# Altium footprint library WCAP-FTXH.PcbLib: 36 footprints (part 1 of 3)
Each footprint in its own frame and in the unit in brackets; x right, y up, seen from the top. Pads: shape width x height; smd on the part's side, far side on the other; paste and mask are expansions set on the pad; w line width, h text height; cw(c..) or ccw(c..) is an arc to the next point about the centre after c.
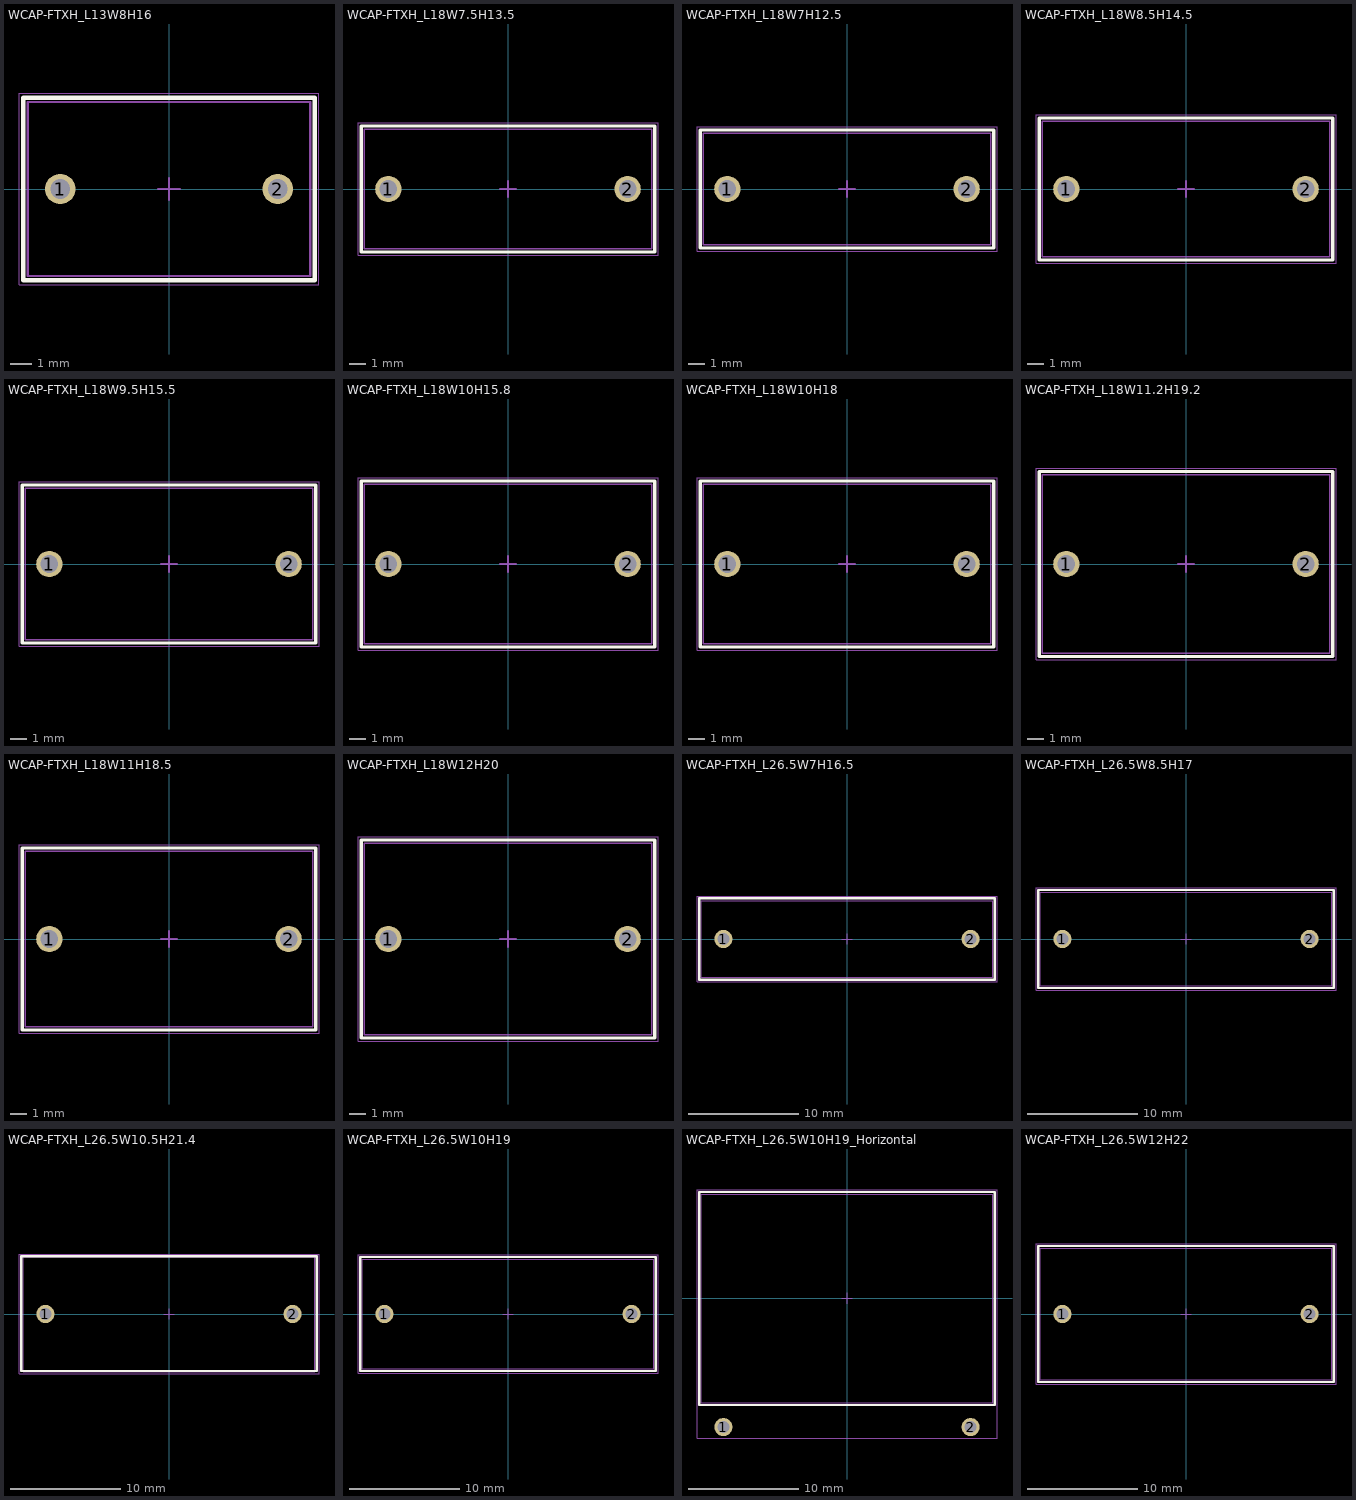
[diagram p0: the footprints below, top view; thin cyan lines are the x and y axes]

## WCAP-FTXH_L13W8H16 [mm] "Film Capacitor, body 13.00x8.00mm"
height 16
pads (2):
  round 1.4 hole 0.9: 1(-5,0) 2(5,0)
Top Overlay:
  lines w0.2: -6.7,-4.2 6.7,-4.2 6.7,4.2 -6.7,4.2 -6.7,-4.2
Top Assembly:
  lines w0.1: -6.7,-4.2 6.7,-4.2 6.7,4.2 -6.7,4.2 -6.7,-4.2
Top Designator:
  text ".Designator" at -3.647,-0.357 h1
Top 3D Body:
  lines w0.1: -6.5,-4 6.5,-4 6.5,4 -6.5,4 -6.5,-4
Top Courtyard:
  lines w0.05: -6.9,-4.4 6.9,-4.4 6.9,4.4 -6.9,4.4 -6.9,-4.4
Top Component Center:
  lines w0.1: -0.5,0 0.5,0 ; 0,-0.5 0,0.5
3D body "STP_WCAP-FTXH_10x13x8x16 (rev1).stp": height 16.05, standoff -3.95, extent -6.5,-4 6.5,4

## WCAP-FTXH_L18W7.5H13.5 [mm] "Film Capacitor, body 18.00x7.50mm"
height 13.5
pads (2):
  round 1.65 hole 1.1: 1(-7.5,0) 2(7.5,0)
Top Overlay:
  lines w0.2: -9.2,-3.95 -9.2,3.95 9.2,3.95 9.2,-3.95 -9.2,-3.95
Top Assembly:
  lines w0.1: -9.2,-3.95 -9.2,3.95 9.2,3.95 9.2,-3.95 -9.2,-3.95
Top Designator:
  text ".Designator" at -3.647,-0.357 h1
Top 3D Body:
  lines w0.1: -9,-3.75 -9,3.75 9,3.75 9,-3.75 -9,-3.75
Top Courtyard:
  lines w0.05: -9.4,-4.15 -9.4,4.15 9.4,4.15 9.4,-4.15 -9.4,-4.15
Top Component Center:
  lines w0.1: -0.5,0 0.5,0 ; 0,-0.5 0,0.5
3D body "15x18x7,5x13,5.stp": height 13.5, standoff -4, extent -9,-3.75 9,3.75

## WCAP-FTXH_L18W7H12.5 [mm] "Film Capacitor, body 18.00x7.00mm"
height 12.5
pads (2):
  round 1.65 hole 1.1: 1(-7.5,0) 2(7.5,0)
Top Overlay:
  lines w0.2: -9.2,-3.7 9.2,-3.7 9.2,3.7 -9.2,3.7 -9.2,-3.7
Top Assembly:
  lines w0.1: -9.2,-3.7 9.2,-3.7 9.2,3.7 -9.2,3.7 -9.2,-3.7
Top Designator:
  text ".Designator" at -3.647,-0.357 h1
Top 3D Body:
  lines w0.1: -9,-3.5 9,-3.5 9,3.5 -9,3.5 -9,-3.5
Top Courtyard:
  lines w0.05: -9.4,-3.9 9.4,-3.9 9.4,3.9 -9.4,3.9 -9.4,-3.9
Top Component Center:
  lines w0.1: -0.5,0 0.5,0 ; 0,-0.5 0,0.5
3D body "15x18x7x12,5.stp": height 12.57, standoff -3.93, extent -9,-3.5 9,3.5

## WCAP-FTXH_L18W8.5H14.5 [mm] "Film Capacitor, body 18.00x8.50mm"
height 14.5
pads (2):
  round 1.65 hole 1.1: 1(-7.5,0) 2(7.5,0)
Top Overlay:
  lines w0.2: -9.2,-4.45 -9.2,4.45 9.2,4.45 9.2,-4.45 -9.2,-4.45
Top Assembly:
  lines w0.1: -9.2,-4.45 -9.2,4.45 9.2,4.45 9.2,-4.45 -9.2,-4.45
Top Designator:
  text ".Designator" at -3.647,-0.357 h1
Top 3D Body:
  lines w0.1: -9,-4.25 -9,4.25 9,4.25 9,-4.25 -9,-4.25
Top Courtyard:
  lines w0.05: -9.4,-4.65 -9.4,4.65 9.4,4.65 9.4,-4.65 -9.4,-4.65
Top Component Center:
  lines w0.1: -0.5,0 0.5,0 ; 0,-0.5 0,0.5
3D body "15x18x8,5x14,5.stp": height 14.5, standoff -4, extent -9,-4.25 9,4.25

## WCAP-FTXH_L18W9.5H15.5 [mm] "Film Capacitor, body 18.00x9.50mm"
height 15.5
pads (2):
  round 1.65 hole 1.1: 1(-7.5,0) 2(7.5,0)
Top Overlay:
  lines w0.2: -9.2,-4.95 9.2,-4.95 9.2,4.95 -9.2,4.95 -9.2,-4.95
Top Assembly:
  lines w0.1: -9.2,-4.95 9.2,-4.95 9.2,4.95 -9.2,4.95 -9.2,-4.95
Top Designator:
  text ".Designator" at -3.647,-0.357 h1
Top 3D Body:
  lines w0.1: -9,-4.75 9,-4.75 9,4.75 -9,4.75 -9,-4.75
Top Courtyard:
  lines w0.05: -9.4,-5.15 9.4,-5.15 9.4,5.15 -9.4,5.15 -9.4,-5.15
Top Component Center:
  lines w0.1: -0.5,0 0.5,0 ; 0,-0.5 0,0.5
3D body "15x18x9,5x15,5.stp": height 15.5, standoff -4, extent -9,-4.75 9,4.75

## WCAP-FTXH_L18W10H15.8 [mm] "Film Capacitor, body 18.00x10.00mm"
height 15.8
pads (2):
  round 1.65 hole 1.1: 1(-7.5,0) 2(7.5,0)
Top Overlay:
  lines w0.2: -9.2,-5.2 9.2,-5.2 9.2,5.2 -9.2,5.2 -9.2,-5.2
Top Assembly:
  lines w0.1: -9.2,-5.2 9.2,-5.2 9.2,5.2 -9.2,5.2 -9.2,-5.2
Top Designator:
  text ".Designator" at -3.647,-0.357 h1
Top 3D Body:
  lines w0.1: -9,-5 9,-5 9,5 -9,5 -9,-5
Top Courtyard:
  lines w0.05: -9.4,-5.4 9.4,-5.4 9.4,5.4 -9.4,5.4 -9.4,-5.4
Top Component Center:
  lines w0.1: -0.5,0 0.5,0 ; 0,-0.5 0,0.5
3D body "15x18x10x15,8.stp": height 15.55, standoff -3.95, extent -9,-5 9,5

## WCAP-FTXH_L18W10H18 [mm] "Film Capacitor, body 18.00x10.00mm"
height 15.8
pads (2):
  round 1.65 hole 1.1: 1(-7.5,0) 2(7.5,0)
Top Overlay:
  lines w0.2: -9.2,-5.2 9.2,-5.2 9.2,5.2 -9.2,5.2 -9.2,-5.2
Top Assembly:
  lines w0.1: -9.2,-5.2 9.2,-5.2 9.2,5.2 -9.2,5.2 -9.2,-5.2
Top Designator:
  text ".Designator" at -3.647,-0.357 h1
Top 3D Body:
  lines w0.1: -9,-5 9,-5 9,5 -9,5 -9,-5
Top Courtyard:
  lines w0.05: -9.4,-5.4 9.4,-5.4 9.4,5.4 -9.4,5.4 -9.4,-5.4
Top Component Center:
  lines w0.1: -0.5,0 0.5,0 ; 0,-0.5 0,0.5
3D body "15x18x10x18.stp": height 18.05, standoff -3.95, extent -9,-5 9,5

## WCAP-FTXH_L18W11.2H19.2 [mm] "Film Capacitor, body 18.00x11.20mm"
height 19.2
pads (2):
  round 1.65 hole 1.1: 1(-7.5,0) 2(7.5,0)
Top Overlay:
  lines w0.2: -9.2,-5.8 -9.2,5.8 9.2,5.8 9.2,-5.8 -9.2,-5.8
Top Assembly:
  lines w0.1: -9.2,-5.8 -9.2,5.8 9.2,5.8 9.2,-5.8 -9.2,-5.8
Top Designator:
  text ".Designator" at -3.647,-0.357 h1
Top 3D Body:
  lines w0.1: -9,-5.6 -9,5.6 9,5.6 9,-5.6 -9,-5.6
Top Courtyard:
  lines w0.05: -9.4,-6 -9.4,6 9.4,6 9.4,-6 -9.4,-6
Top Component Center:
  lines w0.1: -0.5,0 0.5,0 ; 0,-0.5 0,0.5
3D body "15x18x11,2x19,2.stp": height 19.2, standoff -4, extent -9,-5.6 9,5.6

## WCAP-FTXH_L18W11H18.5 [mm] "Film Capacitor, body 18.00x10.00mm"
height 15.8
pads (2):
  round 1.65 hole 1.1: 1(-7.5,0) 2(7.5,0)
Top Overlay:
  lines w0.2: -9.2,-5.7 9.2,-5.7 9.2,5.7 -9.2,5.7 -9.2,-5.7
Top Assembly:
  lines w0.1: -9.2,-5.7 9.2,-5.7 9.2,5.7 -9.2,5.7 -9.2,-5.7
Top Designator:
  text ".Designator" at -3.647,-0.357 h1
Top 3D Body:
  lines w0.1: -9,-5.5 9,-5.5 9,5.5 -9,5.5 -9,-5.5
Top Courtyard:
  lines w0.05: -9.4,-5.9 9.4,-5.9 9.4,5.9 -9.4,5.9 -9.4,-5.9
Top Component Center:
  lines w0.1: -0.5,0 0.5,0 ; 0,-0.5 0,0.5
3D body "15x18x11x18.5.stp": height 18.52, standoff -3.98, extent -9,-5.5 9,5.5

## WCAP-FTXH_L18W12H20 [mm] "Film Capacitor, body 18.00x10.00mm"
height 15.8
pads (2):
  round 1.65 hole 1.1: 1(-7.5,0) 2(7.5,0)
Top Overlay:
  lines w0.2: -9.2,-6.2 -9.2,6.2 9.2,6.2 9.2,-6.2 -9.2,-6.2
Top Assembly:
  lines w0.1: -9.2,-6.2 -9.2,6.2 9.2,6.2 9.2,-6.2 -9.2,-6.2
Top Designator:
  text ".Designator" at -3.647,-0.357 h1
Top 3D Body:
  lines w0.1: -9,-6 -9,6 9,6 9,-6 -9,-6
Top Courtyard:
  lines w0.05: -9.4,-6.4 -9.4,6.4 9.4,6.4 9.4,-6.4 -9.4,-6.4
Top Component Center:
  lines w0.1: -0.5,0 0.5,0 ; 0,-0.5 0,0.5
3D body "15x18x12x20.stp": height 20.27, standoff -3.72, extent -9,-6 9,6

## WCAP-FTXH_L26.5W7H16.5 [mm] "Film Capacitor, body 26.50x7.00mm"
height 16.5
pads (2):
  round 1.65 hole 1.1: 1(-11.25,0) 2(11.25,0)
Top Overlay:
  lines w0.2: -13.45,-3.7 -13.45,3.7 13.45,3.7 13.45,-3.7 -13.45,-3.7
Top Assembly:
  lines w0.1: -13.45,-3.7 -13.45,3.7 13.45,3.7 13.45,-3.7 -13.45,-3.7
Top Designator:
  text ".Designator" at -3.647,-0.357 h1
Top 3D Body:
  lines w0.1: -13.25,-3.501 -13.25,3.5 13.25,3.5 13.25,-3.501 -13.25,-3.501
Top Courtyard:
  lines w0.05: -13.65,-3.9 -13.65,3.9 13.65,3.9 13.65,-3.9 -13.65,-3.9
Top Component Center:
  lines w0.1: -0.5,0 0.5,0 ; 0,-0.5 0,0.5
3D body "22.5x26.5x7.0x16.5.stp": height 16.55, standoff -3.95, extent -13.25,-3.501 13.25,3.5

## WCAP-FTXH_L26.5W8.5H17 [mm] "Film Capacitor, body 26.50x8.50mm"
height 17
pads (2):
  round 1.65 hole 1.1: 1(-11.25,0) 2(11.25,0)
Top Overlay:
  lines w0.2: -13.45,-4.45 13.45,-4.45 13.45,4.45 -13.45,4.45 -13.45,-4.45
Top Assembly:
  lines w0.1: -13.45,-4.45 13.45,-4.45 13.45,4.45 -13.45,4.45 -13.45,-4.45
Top Designator:
  text ".Designator" at -3.647,-0.357 h1
Top 3D Body:
  lines w0.1: -13.25,-4.25 13.25,-4.25 13.25,4.25 -13.25,4.25 -13.25,-4.25
Top Courtyard:
  lines w0.05: -13.65,-4.65 13.65,-4.65 13.65,4.65 -13.65,4.65 -13.65,-4.65
Top Component Center:
  lines w0.1: -0.5,0 0.5,0 ; 0,-0.5 0,0.5
3D body "22,5x26,5x8,5x17.stp": height 16.85, standoff -3.85, extent -13.25,-4.25 13.25,4.25

## WCAP-FTXH_L26.5W10.5H21.4 [mm] "Film Capacitor, body 26.50x10.50mm"
height 21.4
pads (2):
  round 1.65 hole 1.1: 1(-11.25,0) 2(11.25,0)
Top Overlay:
  lines w0.2: -13.45,-5.2 -13.45,5.25 13.45,5.25 13.45,-5.2 -13.45,-5.2
Top Assembly:
  lines w0.1: -13.45,-5.2 -13.45,5.2 13.45,5.2 13.45,-5.2 -13.45,-5.2
Top Designator:
  text ".Designator" at -3.647,-0.357 h1
Top 3D Body:
  lines w0.1: -13.25,-5.25 -13.25,5.25 13.25,5.25 13.25,-5.25 -13.25,-5.25
Top Courtyard:
  lines w0.05: -13.65,-5.45 -13.65,5.45 13.65,5.45 13.65,-5.45 -13.65,-5.45
Top Component Center:
  lines w0.1: -0.5,0 0.5,0 ; 0,-0.5 0,0.5
3D body "22,5x26x11x20.stp": height 21.5, standoff -3.9, extent -13.25,-5.251 13.25,5.25

## WCAP-FTXH_L26.5W10H19 [mm] "Film Capacitor, body 26.50x10.00mm"
height 19
pads (2):
  round 1.65 hole 1.1: 1(-11.25,0) 2(11.25,0)
Top Overlay:
  lines w0.2: -13.45,-5.2 13.45,-5.2 13.45,5.2 -13.45,5.2 -13.45,-5.2
Top Assembly:
  lines w0.1: -13.45,-5.2 13.45,-5.2 13.45,5.2 -13.45,5.2 -13.45,-5.2
Top Designator:
  text ".Designator" at -3.647,-0.357 h1
Top 3D Body:
  lines w0.1: -13.25,-5 13.25,-5 13.25,5 -13.25,5 -13.25,-5
Top Courtyard:
  lines w0.05: -13.65,-5.4 13.65,-5.4 13.65,5.4 -13.65,5.4 -13.65,-5.4
Top Component Center:
  lines w0.1: -0.5,0 0.5,0 ; 0,-0.5 0,0.5
3D body "22,5x26,5x10x19.stp": height 18.85, standoff -3.85, extent -13.25,-5 13.25,5

## WCAP-FTXH_L26.5W10H19_Horizontal [mm] "Film Capacitor, body 26.50x19.00mm"
height 10
pads (2):
  round 1.65 hole 1.1: 1(-11.25,-11.7) 2(11.25,-11.7)
Top Overlay:
  lines w0.2: -13.45,-9.7 13.45,-9.7 13.45,9.7 -13.45,9.7 -13.45,-9.7
Top Assembly:
  lines w0.1: -13.45,-9.7 13.45,-9.7 13.45,9.7 -13.45,9.7 -13.45,-9.7
Top Designator:
  text ".Designator" at -3.647,-0.357 h1
Top 3D Body:
  lines w0.1: -13.25,-9.5 13.25,-9.5 13.25,9.5 -13.25,9.5 -13.25,-9.5
Top Courtyard:
  lines w0.05: -13.65,-12.725 -13.65,9.9 13.65,9.9 13.65,-12.725 -13.65,-12.725
Top Component Center:
  lines w0.1: -0.5,0 0.5,0 ; 0,-0.5 0,0.5
3D body "22.5x26.5x10x19.stp": height 10.1, standoff -4.2, extent -13.25,-12.1 13.25,9.5

## WCAP-FTXH_L26.5W12H22 [mm] "Film Capacitor, body 26.50x12.00mm"
height 22
pads (2):
  round 1.65 hole 1.1: 1(-11.25,0) 2(11.25,0)
Top Overlay:
  lines w0.2: -13.45,-6.2 -13.45,6.2 13.45,6.2 13.45,-6.2 -13.45,-6.2
Top Assembly:
  lines w0.1: -13.45,-6.2 -13.45,6.2 13.45,6.2 13.45,-6.2 -13.45,-6.2
Top Designator:
  text ".Designator" at -3.647,-0.357 h1
Top 3D Body:
  lines w0.1: -13.25,-6 -13.25,6 13.25,6 13.25,-6 -13.25,-6
Top Courtyard:
  lines w0.05: -13.65,-6.4 -13.65,6.4 13.65,6.4 13.65,-6.4 -13.65,-6.4
Top Component Center:
  lines w0.1: -0.5,0 0.5,0 ; 0,-0.5 0,0.5
3D body "22,5x26,5x12x22.stp": height 21.85, standoff -3.85, extent -13.25,-6 13.25,6